# Altium schematic symbol library SiLabs Microcontroller 8-Bit 8051.SchLib: 120 symbols (part 7 of 9)
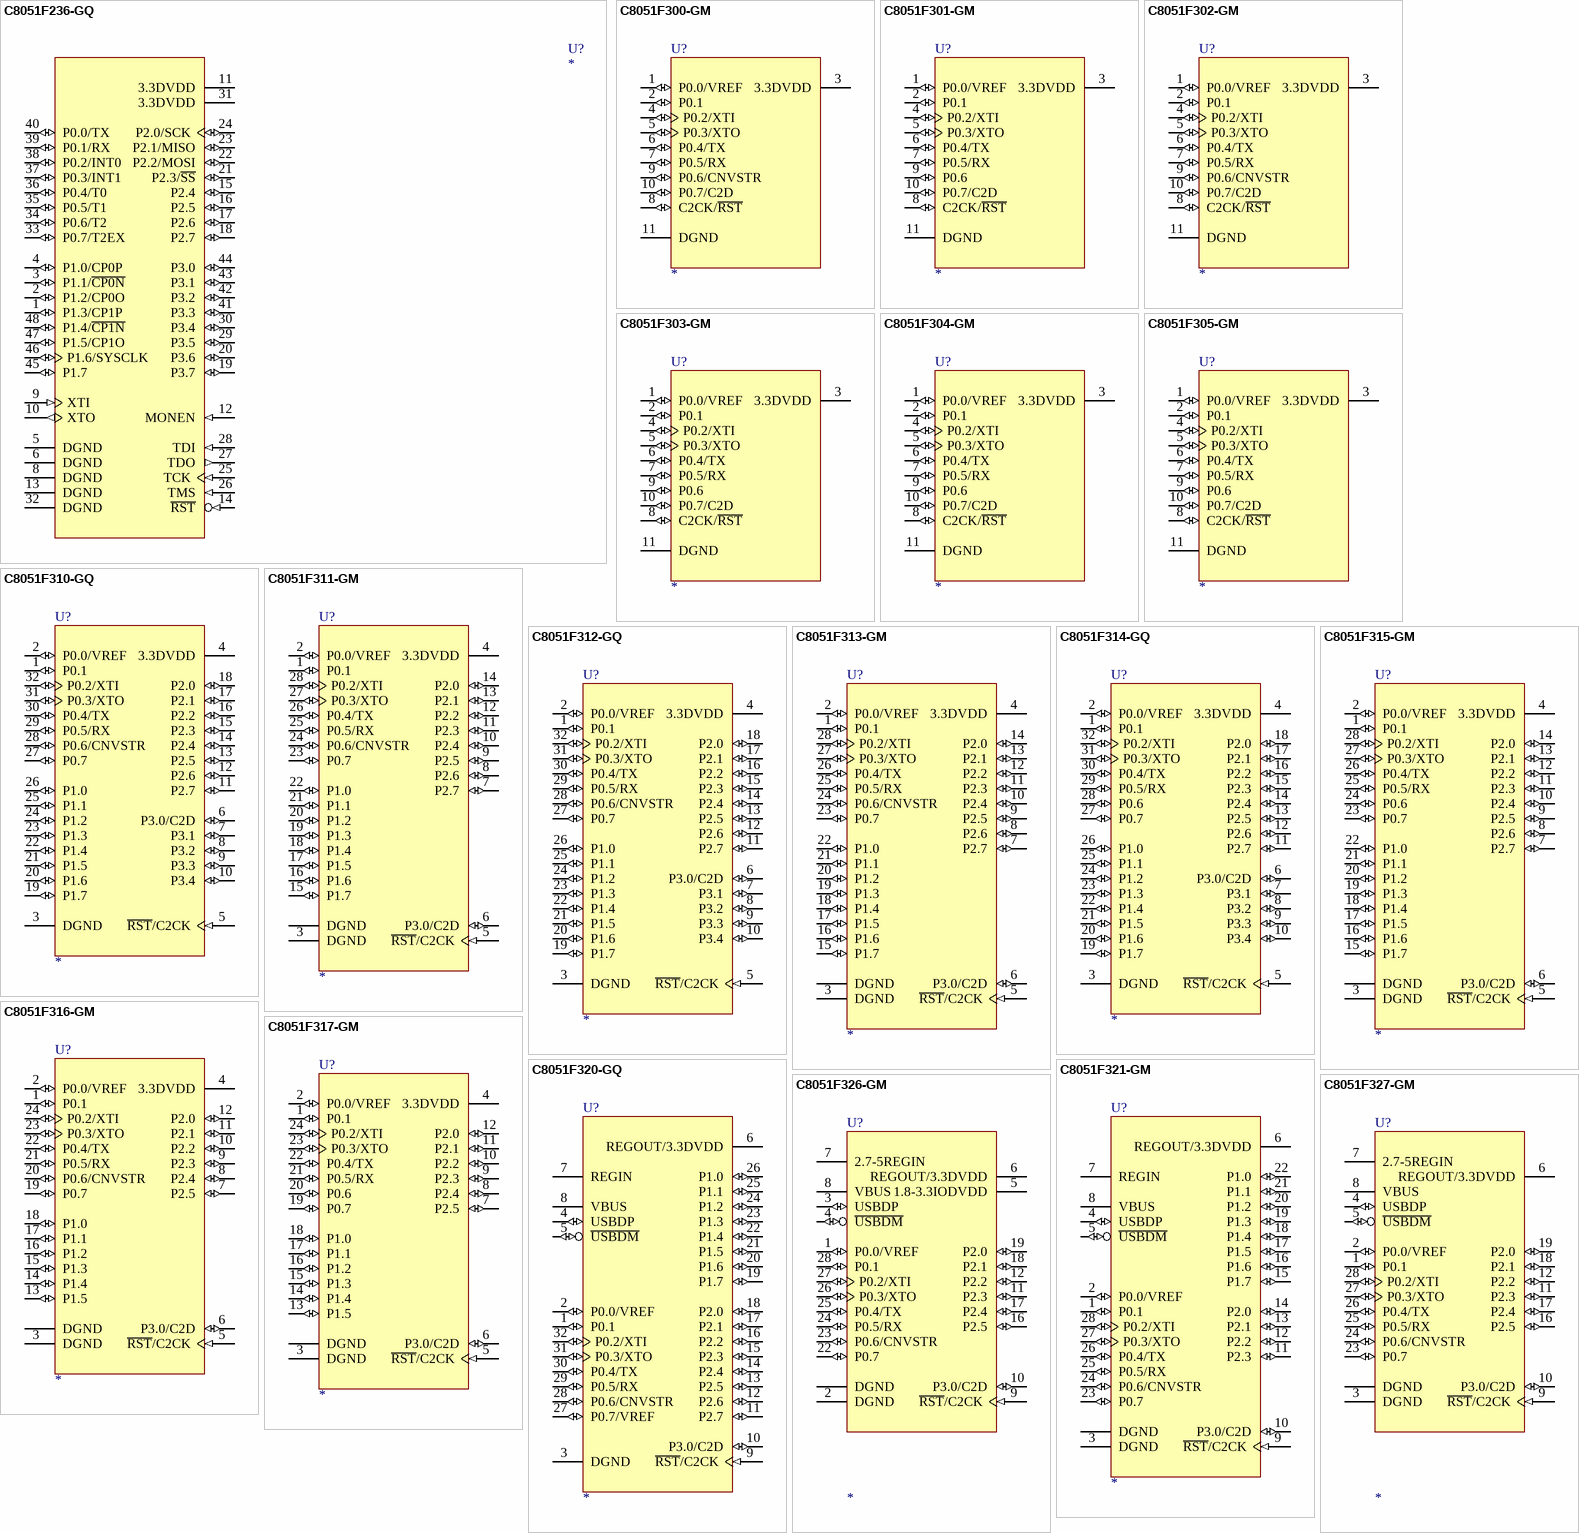
[diagram p20: symbols C8051F236-GQ to C8051F327-GM]

## C8051F312-GQ
designator U?
8051 Microcontroller, 25MIPS, 8KiB Flash, 256Byte RAM + 1KiB XRAM, 24.5MHz +/-2% Internal Oscillator, 4-16bit Timer, 21CH 200ksps 10bit ADC, UART, I2C, SPI, PCA, 2 Comparator, 29GPIO.; Manufacture: Silicon Laboratories; Compliant: RoHS; CompliantInformationSource: Silicon Laboratries; PackageDocument: 2006-08; TempertureRange: Industrial (-40 to +85Cel); ComponentLink1Description: Manufacture Link; ComponentLink1URL: http://www.silabs.com/; ComponentLink2Description: Datasheet; ComponentLink2URL: https://www.silabs.com/Support Documents/TechnicalDocs/C8051F31x.pdf; DatasheetDocument: Rev. 1.7, 2006-08; PackageReference: LQFP-32; Published: 2008-09-16; Publisher: A and A System Co., Ltd.; DigiKeyPartNumber: 336-1255-ND
footprint LQFP-32/e0.8 (LQFP-32; Body Width 10mm; Pitch 0.8mm)
pins: 1 P0.1 (io) "Port 0.1.", 2 P0.0/VREF (io) "Port 0.0/External Voltage Reference", 3 DGND (power) "Digital Power Ground", 4 3.3DVDD (power) "3.3V Digital Power Supply.", 5 ~{RST}/C2CK (in) "Reset Input/C2 Debug IF Clock Input.", 6 P3.0/C2D (io) "Port 0.3/C2 Debug IF Data IO.", 7 P3.1 (io) "Port 3.1.", 8 P3.2 (io) "Port 3.2.", 9 P3.3 (io) "Port 3.3.", 10 P3.4 (io) "Port 3.4.", 11 P2.7 (io) "Port 2.7.", 12 P2.6 (io) "Port 2.6.", 13 P2.5 (io) "Port 2.5.", 14 P2.4 (io) "Port 2.4.", 15 P2.3 (io) "Port 2.3.", 16 P2.2 (io) "Port 2.2.", 17 P2.1 (io) "Port 2.1.", 18 P2.0 (io) "Port 2.0.", 19 P1.7 (io) "Port 1.7.", 20 P1.6 (io) "Port 1.6.", 21 P1.5 (io) "Port 1.5.", 22 P1.4 (io) "Port 1.4.", 23 P1.3 (io) "Port 1.3.", 24 P1.2 (io) "Port 1.2.", 25 P1.1 (io) "Port 1.1", 26 P1.0 (io) "Port 1.0", 27 P0.7 (io) "Port 0.7.", 28 P0.6/CNVSTR (io) "Port 0.6/ADC0 External Converter Start Input.", 29 P0.5/RX (io) "Port 0.5.", 30 P0.4/TX (io) "Port 0.4.", 31 P0.3/XTO (io) "Port 0.3/External Clock Output.", 32 P0.2/XTI (io) "Port 0.2/External Clock Input."

## C8051F313-GM
designator U?
8051 Microcontroller, 25MIPS, 8KiB Flash, 256Byte RAM + 1KiB XRAM, 24.5MHz +/-2% Internal Oscillator, 4-16bit Timer, 21CH 200ksps 10bit ADC, UART, I2C, SPI, PCA, 2 Comparator, 25GPIO.; Manufacture: Silicon Laboratories; Compliant: RoHS; CompliantInformationSource: Silicon Laboratries; PackageDocument: 2006-08; TempertureRange: Industrial (-40 to +85Cel); ComponentLink1Description: Manufacture Link; ComponentLink1URL: http://www.silabs.com/; ComponentLink2Description: Datasheet; ComponentLink2URL: https://www.silabs.com/Support Documents/TechnicalDocs/C8051F31x.pdf; DatasheetDocument: Rev. 1.7, 2006-08; PackageReference: QFN-28; Published: 2008-09-16; Publisher: A and A System Co., Ltd.; DigiKeyPartNumber: 336-1256-ND
footprint SILABS/QFN-28/W5/E0.5 (SiLabs Specific; QFN-28; Body 5.00x5.00x0.90mm; Pitch 0.5mm)
pins: 1 P0.1 (io) "Port 0.1.", 2 P0.0/VREF (io) "Port 0.0/External Voltage Reference", 3 DGND (power) "Digital Power Ground", 4 3.3DVDD (power) "3.3V Digital Power Supply.", 5 ~{RST}/C2CK (in) "Reset Input/C2 Debug IF Clock Input.", 6 P3.0/C2D (io) "Port 0.3/C2 Debug IF Data IO.", 7 P2.7 (io) "Port 2.7.", 8 P2.6 (io) "Port 2.6.", 9 P2.5 (io) "Port 2.5.", 10 P2.4 (io) "Port 2.4.", 11 P2.3 (io) "Port 2.3.", 12 P2.2 (io) "Port 2.2.", 13 P2.1 (io) "Port 2.1.", 14 P2.0 (io) "Port 2.0.", 15 P1.7 (io) "Port 1.7.", 16 P1.6 (io) "Port 1.6.", 17 P1.5 (io) "Port 1.5.", 18 P1.4 (io) "Port 1.4.", 19 P1.3 (io) "Port 1.3.", 20 P1.2 (io) "Port 1.2.", 21 P1.1 (io) "Port 1.1", 22 P1.0 (io) "Port 1.0", 23 P0.7 (io) "Port 0.7.", 24 P0.6/CNVSTR (io) "Port 0.6/ADC0 External Converter Start Input.", 25 P0.5/RX (io) "Port 0.5.", 26 P0.4/TX (io) "Port 0.4.", 27 P0.3/XTO (io) "Port 0.3/External Clock Output.", 28 P0.2/XTI (io) "Port 0.2/External Clock Input.", TPAD DGND (power)

## C8051F314-GQ
designator U?
8051 Microcontroller, 25MIPS, 8KiB Flash, 256Byte RAM + 1KiB XRAM, 24.5MHz +/-2% Internal Oscillator, 4-16bit Timer, UART, I2C, SPI, PCA, 2 Comparator, 29GPIO.; Manufacture: Silicon Laboratories; Compliant: RoHS; CompliantInformationSource: Silicon Laboratries; PackageDocument: 2006-08; TempertureRange: Industrial (-40 to +85Cel); ComponentLink1Description: Manufacture Link; ComponentLink1URL: http://www.silabs.com/; ComponentLink2Description: Datasheet; ComponentLink2URL: https://www.silabs.com/Support Documents/TechnicalDocs/C8051F31x.pdf; DatasheetDocument: Rev. 1.7, 2006-08; PackageReference: LQFP-32; Published: 2008-09-16; Publisher: A and A System Co., Ltd.; DigiKeyPartNumber: 336-1257-ND
footprint LQFP-32/e0.8 (LQFP-32; Body Width 10mm; Pitch 0.8mm)
pins: 1 P0.1 (io) "Port 0.1.", 2 P0.0/VREF (io) "Port 0.0/External Voltage Reference", 3 DGND (power) "Digital Power Ground", 4 3.3DVDD (power) "3.3V Digital Power Supply.", 5 ~{RST}/C2CK (in) "Reset Input/C2 Debug IF Clock Input.", 6 P3.0/C2D (io) "Port 0.3/C2 Debug IF Data IO.", 7 P3.1 (io) "Port 3.1.", 8 P3.2 (io) "Port 3.2.", 9 P3.3 (io) "Port 3.3.", 10 P3.4 (io) "Port 3.4.", 11 P2.7 (io) "Port 2.7.", 12 P2.6 (io) "Port 2.6.", 13 P2.5 (io) "Port 2.5.", 14 P2.4 (io) "Port 2.4.", 15 P2.3 (io) "Port 2.3.", 16 P2.2 (io) "Port 2.2.", 17 P2.1 (io) "Port 2.1.", 18 P2.0 (io) "Port 2.0.", 19 P1.7 (io) "Port 1.7.", 20 P1.6 (io) "Port 1.6.", 21 P1.5 (io) "Port 1.5.", 22 P1.4 (io) "Port 1.4.", 23 P1.3 (io) "Port 1.3.", 24 P1.2 (io) "Port 1.2.", 25 P1.1 (io) "Port 1.1", 26 P1.0 (io) "Port 1.0", 27 P0.7 (io) "Port 0.7.", 28 P0.6 (io) "Port 0.6/ADC0 External Converter Start Input.", 29 P0.5/RX (io) "Port 0.5.", 30 P0.4/TX (io) "Port 0.4.", 31 P0.3/XTO (io) "Port 0.3/External Clock Output.", 32 P0.2/XTI (io) "Port 0.2/External Clock Input."

## C8051F315-GM
designator U?
8051 Microcontroller, 25MIPS, 8KiB Flash, 256Byte RAM + 1KiB XRAM, 24.5MHz +/-2% Internal Oscillator, 4-16bit Timer, UART, I2C, SPI, PCA, 2 Comparator, 25GPIO.; Manufacture: Silicon Laboratories; Compliant: RoHS; CompliantInformationSource: Silicon Laboratries; PackageDocument: 2006-08; TempertureRange: Industrial (-40 to +85Cel); ComponentLink1Description: Manufacture Link; ComponentLink1URL: http://www.silabs.com/; ComponentLink2Description: Datasheet; ComponentLink2URL: https://www.silabs.com/Support Documents/TechnicalDocs/C8051F31x.pdf; DatasheetDocument: Rev. 1.7, 2006-08; PackageReference: QFN-28; Published: 2008-09-16; Publisher: A and A System Co., Ltd.; DigiKeyPartNumber: 336-1258-ND
footprint SILABS/QFN-28/W5/E0.5 (SiLabs Specific; QFN-28; Body 5.00x5.00x0.90mm; Pitch 0.5mm)
pins: 1 P0.1 (io) "Port 0.1.", 2 P0.0/VREF (io) "Port 0.0/External Voltage Reference", 3 DGND (power) "Digital Power Ground", 4 3.3DVDD (power) "3.3V Digital Power Supply.", 5 ~{RST}/C2CK (in) "Reset Input/C2 Debug IF Clock Input.", 6 P3.0/C2D (io) "Port 0.3/C2 Debug IF Data IO.", 7 P2.7 (io) "Port 2.7.", 8 P2.6 (io) "Port 2.6.", 9 P2.5 (io) "Port 2.5.", 10 P2.4 (io) "Port 2.4.", 11 P2.3 (io) "Port 2.3.", 12 P2.2 (io) "Port 2.2.", 13 P2.1 (io) "Port 2.1.", 14 P2.0 (io) "Port 2.0.", 15 P1.7 (io) "Port 1.7.", 16 P1.6 (io) "Port 1.6.", 17 P1.5 (io) "Port 1.5.", 18 P1.4 (io) "Port 1.4.", 19 P1.3 (io) "Port 1.3.", 20 P1.2 (io) "Port 1.2.", 21 P1.1 (io) "Port 1.1", 22 P1.0 (io) "Port 1.0", 23 P0.7 (io) "Port 0.7.", 24 P0.6 (io) "Port 0.6/ADC0 External Converter Start Input.", 25 P0.5/RX (io) "Port 0.5.", 26 P0.4/TX (io) "Port 0.4.", 27 P0.3/XTO (io) "Port 0.3/External Clock Output.", 28 P0.2/XTI (io) "Port 0.2/External Clock Input.", TPAD DGND (power)

## C8051F316-GM
designator U?
8051 Microcontroller, 25MIPS, 16KiB Flash, 256Byte RAM + 1KiB XRAM, 24.5MHz +/-2% Internal Oscillator, 4-16bit Timer, 21CH 200ksps 10bit ADC, UART, I2C, SPI, PCA, 2 Comparator, 21GPIO.; Manufacture: Silicon Laboratories; Compliant: RoHS; CompliantInformationSource: Silicon Laboratries; PackageDocument: 2006-08; TempertureRange: Industrial (-40 to +85Cel); ComponentLink1Description: Manufacture Link; ComponentLink1URL: http://www.silabs.com/; ComponentLink2Description: Datasheet; ComponentLink2URL: https://www.silabs.com/Support Documents/TechnicalDocs/C8051F31x.pdf; DatasheetDocument: Rev. 1.7, 2006-08; PackageReference: QFN-24; Published: 2008-09-16; Publisher: A and A System Co., Ltd.; DigiKeyPartNumber: 336-1281-5-ND
footprint HV-PQFN-24/W4/e0.5 (QFN-24; JEDEC MO-220-VGGD-6; Body 4.00x4.00x1.00mm; Pitch 0.5mm;)
pins: 1 P0.1 (io) "Port 0.1.", 2 P0.0/VREF (io) "Port 0.0/External Voltage Reference", 3 DGND (power) "Digital Power Ground", 4 3.3DVDD (power) "3.3V Digital Power Supply.", 5 ~{RST}/C2CK (in) "Reset Input/C2 Debug IF Clock Input.", 6 P3.0/C2D (io) "Port 0.3/C2 Debug IF Data IO.", 7 P2.5 (io) "Port 2.5.", 8 P2.4 (io) "Port 2.4.", 9 P2.3 (io) "Port 2.3.", 10 P2.2 (io) "Port 2.2.", 11 P2.1 (io) "Port 2.1.", 12 P2.0 (io) "Port 2.0.", 13 P1.5 (io) "Port 1.5.", 14 P1.4 (io) "Port 1.4.", 15 P1.3 (io) "Port 1.3.", 16 P1.2 (io) "Port 1.2.", 17 P1.1 (io) "Port 1.1", 18 P1.0 (io) "Port 1.0", 19 P0.7 (io) "Port 0.7.", 20 P0.6/CNVSTR (io) "Port 0.6/ADC0 External Converter Start Input.", 21 P0.5/RX (io) "Port 0.5.", 22 P0.4/TX (io) "Port 0.4.", 23 P0.3/XTO (io) "Port 0.3/External Clock Output.", 24 P0.2/XTI (io) "Port 0.2/External Clock Input.", TPAD DGND (power)

## C8051F317-GM
designator U?
8051 Microcontroller, 25MIPS, 16KiB Flash, 256Byte RAM + 1KiB XRAM, 24.5MHz +/-2% Internal Oscillator, 4-16bit Timer, UART, I2C, SPI, PCA, 2 Comparator, 21GPIO.; Manufacture: Silicon Laboratories; Compliant: RoHS; CompliantInformationSource: Silicon Laboratries; PackageDocument: 2006-08; TempertureRange: Industrial (-40 to +85Cel); ComponentLink1Description: Manufacture Link; ComponentLink1URL: http://www.silabs.com/; ComponentLink2Description: Datasheet; ComponentLink2URL: https://www.silabs.com/Support Documents/TechnicalDocs/C8051F31x.pdf; DatasheetDocument: Rev. 1.7, 2006-08; PackageReference: QFN-24; Published: 2008-09-16; Publisher: A and A System Co., Ltd.; DigiKeyPartNumber: 336-1282-5-ND
footprint HV-PQFN-24/W4/e0.5 (QFN-24; JEDEC MO-220-VGGD-6; Body 4.00x4.00x1.00mm; Pitch 0.5mm;)
pins: 1 P0.1 (io) "Port 0.1.", 2 P0.0/VREF (io) "Port 0.0/External Voltage Reference", 3 DGND (power) "Digital Power Ground", 4 3.3DVDD (power) "3.3V Digital Power Supply.", 5 ~{RST}/C2CK (in) "Reset Input/C2 Debug IF Clock Input.", 6 P3.0/C2D (io) "Port 0.3/C2 Debug IF Data IO.", 7 P2.5 (io) "Port 2.5.", 8 P2.4 (io) "Port 2.4.", 9 P2.3 (io) "Port 2.3.", 10 P2.2 (io) "Port 2.2.", 11 P2.1 (io) "Port 2.1.", 12 P2.0 (io) "Port 2.0.", 13 P1.5 (io) "Port 1.5.", 14 P1.4 (io) "Port 1.4.", 15 P1.3 (io) "Port 1.3.", 16 P1.2 (io) "Port 1.2.", 17 P1.1 (io) "Port 1.1", 18 P1.0 (io) "Port 1.0", 19 P0.7 (io) "Port 0.7.", 20 P0.6 (io) "Port 0.6/ADC0 External Converter Start Input.", 21 P0.5/RX (io) "Port 0.5.", 22 P0.4/TX (io) "Port 0.4.", 23 P0.3/XTO (io) "Port 0.3/External Clock Output.", 24 P0.2/XTI (io) "Port 0.2/External Clock Input.", TPAD DGND (power)

## C8051F320-GQ
designator U?
USB 8051 Microcontroller, 25MIPS, 16KiB Flash, 256Byte RAM + 1KiB XRAM, 1KiB USB FIFO, 12MHz +/-0.25% Internal Oscillator, 4-16bit Timer, 17CH 200ksps 10bit ADC, USB 2.0 FS/LS, UART, I2C, SPI, PCA, 2 Comparator, LDO, 25GPIO.; Manufacture: Silicon Laboratories; Compliant: RoHS; CompliantInformationSource: Silicon Laboratries; PackageDocument: 2007-06; TempertureRange: Industrial (-40 to +85Cel); ComponentLink1Description: Manufacture Link; ComponentLink1URL: http://www.silabs.com/; ComponentLink2Description: Datasheet; ComponentLink2URL: https://www.silabs.com/Support Documents/TechnicalDocs/C8051F32x.pdf; DatasheetDocument: Rev. 1.2, 2007-06; PackageReference: LQFP-32; Published: 2006-02-21; Publisher: A and A System Co., Ltd.; DigiKeyPartNumber: 336-1259-ND
footprint LQFP-32/e0.8 (LQFP-32; Body Width 10mm; Pitch 0.8mm)
pins: 1 P0.1 (io) "Port 0.1.", 2 P0.0/VREF (io) "Port 0.0, External Voltage Reference.", 3 DGND (power) "Digital Power Ground", 4 USBDP (io) "USB Data line Positive.", 5 ~{USBDM} (io) "USB Data line Negative", 6 REGOUT/3.3DVDD (power) "2.7-3.6V Power Supply Voltage Input, or 3.3V Voltage Regulator Output. See Section 8.", 7 REGIN (power) "5V Regulator Input. This pin is the input to the on-chip voltage regulator.", 8 VBUS (power) "VBUS Sense Input. This pin should be connected to the VBUS signal of a USB network. A 5?V signal on this pin indicates a USB network connection.", 9 ~{RST}/C2CK (in) "Reset Input, C2 Debug IF Clock Input.", 10 P3.0/C2D (io) "Port 0.3, C2 Debug IF Data IO.", 11 P2.7 (io) "Port 2.7.", 12 P2.6 (io) "Port 2.6.", 13 P2.5 (io) "Port 2.5.", 14 P2.4 (io) "Port 2.4.", 15 P2.3 (io) "Port 2.3.", 16 P2.2 (io) "Port 2.2.", 17 P2.1 (io) "Port 2.1.", 18 P2.0 (io) "Port 2.0.", 19 P1.7 (io) "Port 1.7.", 20 P1.6 (io) "Port 1.6.", 21 P1.5 (io) "Port 1.5.", 22 P1.4 (io) "Port 1.4.", 23 P1.3 (io) "Port 1.3.", 24 P1.2 (io) "Port 1.2.", 25 P1.1 (io) "Port 1.1", 26 P1.0 (io) "Port 1.0", 27 P0.7/VREF (io) "Port 0.7.", 28 P0.6/CNVSTR (io) "Port 0.6, ADC0 External Converter Start Input.", 29 P0.5/RX (io) "Port 0.5.", 30 P0.4/TX (io) "Port 0.4.", 31 P0.3/XTO (io) "Port 0.3, External Clock Output.", 32 P0.2/XTI (io) "Port 0.2, External Clock Input."

## C8051F321-GM
designator U?
USB 8051 Microcontroller, 25MIPS, 16KiB Flash, 256Byte RAM + 1KiB XRAM, 1KiB USB FIFO, 12MHz +/-0.25% Internal Oscillator, 4-16bit Timer, 12CH 200ksps 10bit ADC, USB 2.0 FS/LS, UART, I2C, SPI, PCA, 2 Comparator, LDO, 21GPIO.; Manufacture: Silicon Laboratories; Compliant: RoHS; CompliantInformationSource: Silicon Laboratries; PackageDocument: 2007-06; TempertureRange: Industrial (-40 to +85Cel); ComponentLink1Description: Manufacture Link; ComponentLink1URL: http://www.silabs.com/; ComponentLink2Description: Datasheet; ComponentLink2URL: https://www.silabs.com/Support Documents/TechnicalDocs/C8051F32x.pdf; DatasheetDocument: Rev. 1.2, 2007-06; PackageReference: QFN-28; Published: 2006-02-21; Publisher: A and A System Co., Ltd.; DigiKeyPartNumber: 336-1261-ND
footprint SILABS/QFN-28/W5/E0.5 (SiLabs Specific; QFN-28; Body 5.00x5.00x0.90mm; Pitch 0.5mm)
pins: 1 P0.1 (io) "Port 0.1.", 2 P0.0/VREF (io) "Port 0.0, External Voltage Reference", 3 DGND (power) "Digital Power Ground", 4 USBDP (io) "USB Data line Positive", 5 ~{USBDM} (io) "USB Data line Negative", 6 REGOUT/3.3DVDD (power) "2.7-3.6V Power Supply Voltage Input, or 3.3V Voltage Regulator Output. See Section 8.", 7 REGIN (power) "5V Regulator Input. This pin is the input to the on-chip voltage regulator.", 8 VBUS (power) "VBUS Sense Input. This pin should be connected to the VBUS signal of a USB network. A 5?V signal on this pin indicates a USB network connection.", 9 ~{RST}/C2CK (in) "Reset Input/C2 Debug IF Clock Input.", 10 P3.0/C2D (io) "Port 0.3/C2 Debug IF Data IO.", 11 P2.3 (io) "Port 2.3.", 12 P2.2 (io) "Port 2.2.", 13 P2.1 (io) "Port 2.1.", 14 P2.0 (io) "Port 2.0.", 15 P1.7 (io) "Port 1.7.", 16 P1.6 (io) "Port 1.6.", 17 P1.5 (io) "Port 1.5.", 18 P1.4 (io) "Port 1.4.", 19 P1.3 (io) "Port 1.3.", 20 P1.2 (io) "Port 1.2.", 21 P1.1 (io) "Port 1.1", 22 P1.0 (io) "Port 1.0", 23 P0.7 (io) "Port 0.7.", 24 P0.6/CNVSTR (io) "Port 0.6/ADC0 External Converter Start Input.", 25 P0.5/RX (io) "Port 0.5.", 26 P0.4/TX (io) "Port 0.4.", 27 P0.3/XTO (io) "Port 0.3/External Clock Output.", 28 P0.2/XTI (io) "Port 0.2/External Clock Input.", TPAD DGND (power)

## C8051F326-GM
designator U?
USB 8051 Microcontroller, 25MIPS, 16KiB Flash, 256Byte RAM + 256Byte XRAM, 256Byte USB FIFO, 12MHz +/-0.25% Internal Oscillator, 2-16bit Timer, USB 2.0 FS/LS, UART, LDO, Separable IO Supply, 15GPIO.; Manufacture: Silicon Laboratories; Compliant: RoHS; CompliantInformationSource: Silicon Laboratries; PackageDocument: 2008-08; TempertureRange: Industrial (-40 to +85Cel); ComponentLink1Description: Manufacture Link; ComponentLink1URL: http://www.silabs.com/; ComponentLink2Description: Datasheet; ComponentLink2URL: https://www.silabs.com/Support Documents/TechnicalDocs/C8051F326.pdf; DatasheetDocument: Rev. 1.1, 2008-08; PackageReference: QFN-28; Published: 2008-09-16; Publisher: A and A System Co., Ltd.; DigiKeyPartNumber: 336-1296-5-ND
footprint SILABS/QFN-28/W5/E0.5 (SiLabs Specific; QFN-28; Body 5.00x5.00x0.90mm; Pitch 0.5mm)
pins: 1 P0.0/VREF (io) "Port 0.0, External Voltage Reference", 2 DGND (power) "Digital Power Ground", 3 USBDP (io) "USB Data line Positive", 4 ~{USBDM} (io) "USB Data line Negative", 5 1.8-3.3IODVDD (power), 6 REGOUT/3.3DVDD (power) "2.7-3.6V Power Supply Voltage Input, or 3.3V Voltage Regulator Output. See Section 8.", 7 2.7-5REGIN (power) "5V Regulator Input. This pin is the input to the on-chip voltage regulator.", 8 VBUS (power) "VBUS Sense Input. This pin should be connected to the VBUS signal of a USB network. A 5?V signal on this pin indicates a USB network connection.", 9 ~{RST}/C2CK (in) "Reset Input/C2 Debug IF Clock Input.", 10 P3.0/C2D (io) "Port 0.3/C2 Debug IF Data IO.", 11 P2.3 (io) "Port 2.3.", 12 P2.2 (io) "Port 2.2.", 16 P2.5 (io) "Port 2.2.", 17 P2.4 (io) "Port 2.2.", 18 P2.1 (io) "Port 2.2.", 19 P2.0 (io) "Port 2.2.", 22 P0.7 (io) "Port 0.7.", 23 P0.6/CNVSTR (io) "Port 0.6/ADC0 External Converter Start Input.", 24 P0.5/RX (io) "Port 0.5.", 25 P0.4/TX (io) "Port 0.4.", 26 P0.3/XTO (io) "Port 0.3/External Clock Output.", 27 P0.2/XTI (io) "Port 0.2/External Clock Input.", 28 P0.1 (io) "Port 0.1.", TPAD DGND (power)

## C8051F327-GM
designator U?
USB 8051 Microcontroller, 25MIPS, 16KiB Flash, 256Byte RAM + 256Byte XRAM, 256Byte USB FIFO, 12MHz +/-0.25% Internal Oscillator, 2-16bit Timer, USB 2.0 FS/LS, UART, LDO, 15GPIO.; Manufacture: Silicon Laboratories; Compliant: RoHS; CompliantInformationSource: Silicon Laboratries; PackageDocument: 2008-08; TempertureRange: Industrial (-40 to +85Cel); ComponentLink1Description: Manufacture Link; ComponentLink1URL: http://www.silabs.com/; ComponentLink2Description: Datasheet; ComponentLink2URL: https://www.silabs.com/Support Documents/TechnicalDocs/C8051F326.pdf; DatasheetDocument: Rev. 1.1, 2008-08; PackageReference: QFN-28; Published: 2008-09-16; Publisher: A and A System Co., Ltd.; DigiKeyPartNumber: 336-1297-5-ND
footprint SILABS/QFN-28/W5/E0.5 (SiLabs Specific; QFN-28; Body 5.00x5.00x0.90mm; Pitch 0.5mm)
pins: 1 P0.1 (io) "Port 0.1.", 2 P0.0/VREF (io) "Port 0.0, External Voltage Reference", 3 DGND (power) "Digital Power Ground", 4 USBDP (io) "USB Data line Positive", 5 ~{USBDM} (io) "USB Data line Negative", 6 REGOUT/3.3DVDD (power) "2.7-3.6V Power Supply Voltage Input, or 3.3V Voltage Regulator Output. See Section 8.", 7 2.7-5REGIN (power) "5V Regulator Input. This pin is the input to the on-chip voltage regulator.", 8 VBUS (power) "VBUS Sense Input. This pin should be connected to the VBUS signal of a USB network. A 5?V signal on this pin indicates a USB network connection.", 9 ~{RST}/C2CK (in) "Reset Input/C2 Debug IF Clock Input.", 10 P3.0/C2D (io) "Port 0.3/C2 Debug IF Data IO.", 11 P2.3 (io) "Port 2.3.", 12 P2.2 (io) "Port 2.2.", 16 P2.5 (io) "Port 2.2.", 17 P2.4 (io) "Port 2.2.", 18 P2.1 (io) "Port 2.2.", 19 P2.0 (io) "Port 2.2.", 23 P0.7 (io) "Port 0.7.", 24 P0.6/CNVSTR (io) "Port 0.6/ADC0 External Converter Start Input.", 25 P0.5/RX (io) "Port 0.5.", 26 P0.4/TX (io) "Port 0.4.", 27 P0.3/XTO (io) "Port 0.3/External Clock Output.", 28 P0.2/XTI (io) "Port 0.2/External Clock Input.", TPAD DGND (power)

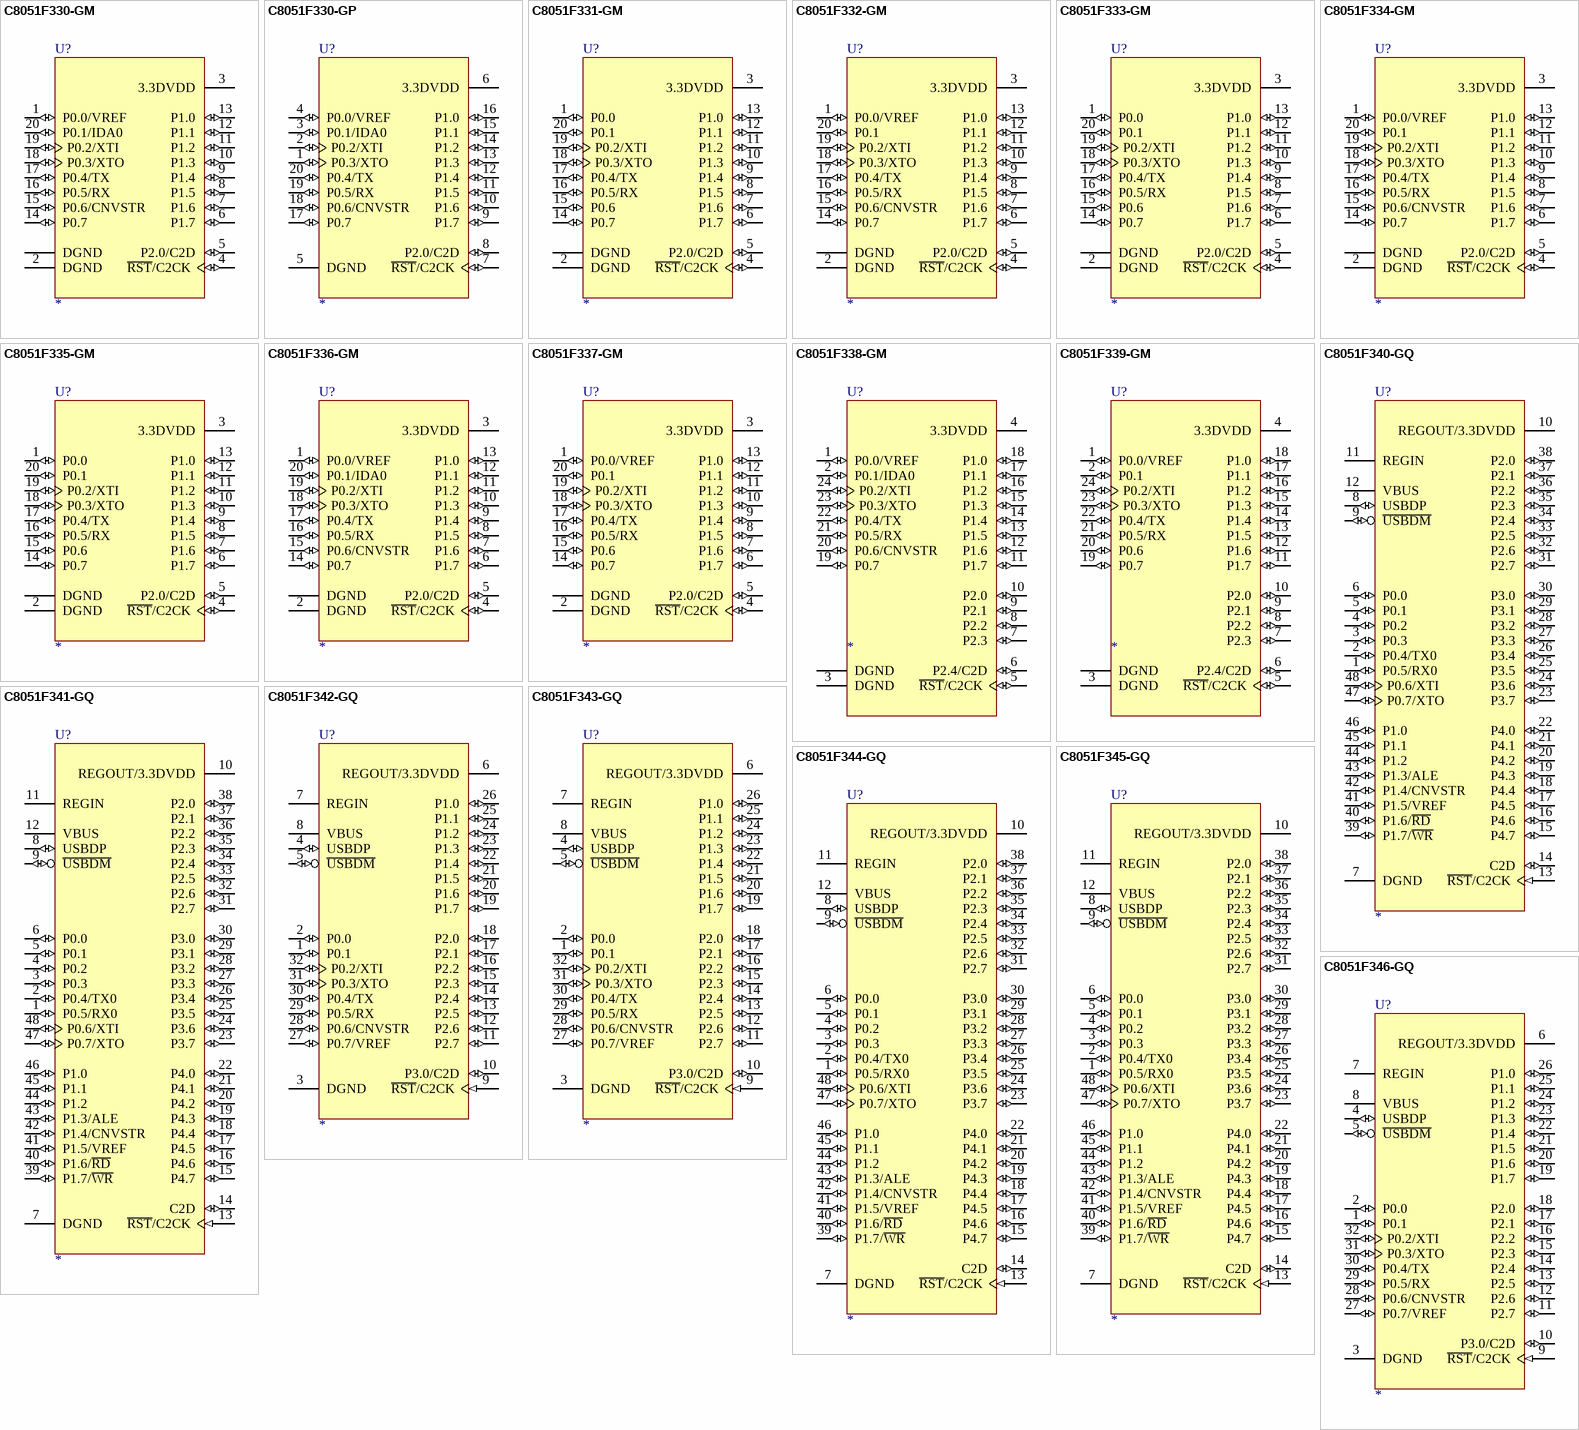
[diagram p12: symbols C8051F330-GM to C8051F346-GQ]

## C8051F330-GM
designator U?
8051 Microcontroller, 25MIPS, 8KiB Flash, 256Byte RAM + 512Byte XRAM, 24.5MHz +/-2% and 80-10kHz Internal Oscillator, 4-16bit Timer, 16CH 200ksps 10bit ADC, 1CH 10bit IDAC, UART, I2C, SPI, PCA, Comparator, 17GPIO.; Manufacture: Silicon Laboratories; Compliant: RoHS; CompliantInformationSource: Silicon Laboratries; PackageDocument: 2006-01; TempertureRange: Industrial (-40 to +85Cel); ComponentLink1Description: Manufacture Link; ComponentLink1URL: http://www.silabs.com/; ComponentLink2Description: Datasheet; ComponentLink2URL: https://www.silabs.com/Support Documents/TechnicalDocs/C8051F33x.pdf; DatasheetDocument: Rev. 1.5, 2006-01; PackageReference: QFN-20; Published: 2006-02-17; Publisher: A and A System Co., Ltd.; DigiKeyPartNumber: 336-1262-ND
footprint SILABS/QFN-20/W4/E0.5 (SiLabs Specific; QFN-20; Body  4.00x4.00x0.75mm; Pitch 0.5mm)
pins: 1 P0.0/VREF (io), 2 DGND (power), 3 3.3DVDD (power), 4 ~{RST}/C2CK (io), 5 P2.0/C2D (io), 6 P1.7 (io), 7 P1.6 (io), 8 P1.5 (io), 9 P1.4 (io), 10 P1.3 (io), 11 P1.2 (io), 12 P1.1 (io), 13 P1.0 (io), 14 P0.7 (io), 15 P0.6/CNVSTR (io), 16 P0.5/RX (io), 17 P0.4/TX (io), 18 P0.3/XTO (io), 19 P0.2/XTI (io), 20 P0.1/IDA0 (io), TPAD DGND (power)

## C8051F330-GP
designator U?
8051 Microcontroller, 25MIPS, 8KiB Flash, 256Byte RAM + 512Byte XRAM, 24.5MHz +/-2% and 80-10kHz Internal Oscillator, 4-16bit Timer, 16CH 200ksps 10bit ADC, 1CH 10bit IDAC, UART, I2C, SPI, PCA, Comparator, 17GPIO.; Manufacture: Silicon Laboratories; Compliant: RoHS; CompliantInformationSource: Silicon Laboratries; PackageDocument: 2006-01; TempertureRange: Industrial (-40 to +85Cel); ComponentLink1Description: Manufacture Link; ComponentLink1URL: http://www.silabs.com/; ComponentLink2Description: Datasheet; ComponentLink2URL: https://www.silabs.com/Support Documents/TechnicalDocs/C8051F33x.pdf; DatasheetDocument: Rev. 1.5, 2006-01; PackageReference: DIP-20; Published: 2006-02-17; Publisher: A and A System Co., Ltd.; DigiKeyPartNumber: 336-1263-ND
footprint DIP20/W300/P (Dual Inline Package; 20Pin; Body Width 300mil/7.62mm; Pitch 100mil/2.54mm; JEDEC Code MO-01fAK.)
pins: 1 P0.3/XTO (io), 2 P0.2/XTI (io), 3 P0.1/IDA0 (io), 4 P0.0/VREF (io), 5 DGND (power), 6 3.3DVDD (power), 7 ~{RST}/C2CK (io), 8 P2.0/C2D (io), 9 P1.7 (io), 10 P1.6 (io), 11 P1.5 (io), 12 P1.4 (io), 13 P1.3 (io), 14 P1.2 (io), 15 P1.1 (io), 16 P1.0 (io), 17 P0.7 (io), 18 P0.6/CNVSTR (io), 19 P0.5/RX (io), 20 P0.4/TX (io)

## C8051F331-GM
designator U?
8051 Microcontroller, 25MIPS, 8KiB Flash, 256Byte RAM + 512Byte XRAM, 24.5MHz +/-2% and 80-10kHz Internal Oscillator, 4-16bit Timer, UART, I2C, SPI, PCA, Comparator, 17GPIO.; Manufacture: Silicon Laboratories; Compliant: RoHS; CompliantInformationSource: Silicon Laboratries; PackageDocument: 2006-01; TempertureRange: Industrial (-40 to +85Cel); ComponentLink1Description: Manufacture Link; ComponentLink1URL: http://www.silabs.com/; ComponentLink2Description: Datasheet; ComponentLink2URL: https://www.silabs.com/Support Documents/TechnicalDocs/C8051F33x.pdf; DatasheetDocument: Rev. 1.5, 2006-01; PackageReference: QFN-20; Published: 2006-02-17; Publisher: A and A System Co., Ltd.; DigiKeyPartNumber: 336-1265-ND
footprint SILABS/QFN-20/W4/E0.5 (SiLabs Specific; QFN-20; Body  4.00x4.00x0.75mm; Pitch 0.5mm)
pins: 1 P0.0 (io), 2 DGND (power), 3 3.3DVDD (power), 4 ~{RST}/C2CK (io), 5 P2.0/C2D (io), 6 P1.7 (io), 7 P1.6 (io), 8 P1.5 (io), 9 P1.4 (io), 10 P1.3 (io), 11 P1.2 (io), 12 P1.1 (io), 13 P1.0 (io), 14 P0.7 (io), 15 P0.6 (io), 16 P0.5/RX (io), 17 P0.4/TX (io), 18 P0.3/XTO (io), 19 P0.2/XTI (io), 20 P0.1 (io), TPAD DGND (power)

## C8051F332-GM
designator U?
8051 Microcontroller, 25MIPS, 4KiB Flash, 256Byte RAM + 512Byte XRAM, 24.5MHz +/-2% and 80-10kHz Internal Oscillator, 4-16bit Timer, 16CH 200ksps 10bit ADC, UART, I2C, SPI, PCA, Comparator, 17GPIO.; Manufacture: Silicon Laboratories; Compliant: RoHS; CompliantInformationSource: Silicon Laboratries; PackageDocument: 2006-01; TempertureRange: Industrial (-40 to +85Cel); ComponentLink1Description: Manufacture Link; ComponentLink1URL: http://www.silabs.com/; ComponentLink2Description: Datasheet; ComponentLink2URL: https://www.silabs.com/Support Documents/TechnicalDocs/C8051F33x.pdf; DatasheetDocument: Rev. 1.5, 2006-01; PackageReference: QFN-20; Published: 2006-02-17; Publisher: A and A System Co., Ltd.; DigiKeyPartNumber: 336-1266-ND
footprint SILABS/QFN-20/W4/E0.5 (SiLabs Specific; QFN-20; Body  4.00x4.00x0.75mm; Pitch 0.5mm)
pins: 1 P0.0/VREF (io), 2 DGND (power), 3 3.3DVDD (power), 4 ~{RST}/C2CK (io), 5 P2.0/C2D (io), 6 P1.7 (io), 7 P1.6 (io), 8 P1.5 (io), 9 P1.4 (io), 10 P1.3 (io), 11 P1.2 (io), 12 P1.1 (io), 13 P1.0 (io), 14 P0.7 (io), 15 P0.6/CNVSTR (io), 16 P0.5/RX (io), 17 P0.4/TX (io), 18 P0.3/XTO (io), 19 P0.2/XTI (io), 20 P0.1 (io), TPAD DGND (power)

## C8051F333-GM
designator U?
8051 Microcontroller, 25MIPS, 4KiB Flash, 256Byte RAM + 512Byte XRAM, 24.5MHz +/-2% and 80-10kHz Internal Oscillator, 4-16bit Timer, UART, I2C, SPI, PCA, Comparator, 17GPIO.; Manufacture: Silicon Laboratories; Compliant: RoHS; CompliantInformationSource: Silicon Laboratries; PackageDocument: 2006-01; TempertureRange: Industrial (-40 to +85Cel); ComponentLink1Description: Manufacture Link; ComponentLink1URL: http://www.silabs.com/; ComponentLink2Description: Datasheet; ComponentLink2URL: https://www.silabs.com/Support Documents/TechnicalDocs/C8051F33x.pdf; DatasheetDocument: Rev. 1.5, 2006-01; PackageReference: QFN-20; Published: 2006-02-17; Publisher: A and A System Co., Ltd.; DigiKeyPartNumber: 336-1267-ND
footprint SILABS/QFN-20/W4/E0.5 (SiLabs Specific; QFN-20; Body  4.00x4.00x0.75mm; Pitch 0.5mm)
pins: 1 P0.0 (io), 2 DGND (power), 3 3.3DVDD (power), 4 ~{RST}/C2CK (io), 5 P2.0/C2D (io), 6 P1.7 (io), 7 P1.6 (io), 8 P1.5 (io), 9 P1.4 (io), 10 P1.3 (io), 11 P1.2 (io), 12 P1.1 (io), 13 P1.0 (io), 14 P0.7 (io), 15 P0.6 (io), 16 P0.5/RX (io), 17 P0.4/TX (io), 18 P0.3/XTO (io), 19 P0.2/XTI (io), 20 P0.1 (io), TPAD DGND (power)

## C8051F334-GM
designator U?
8051 Microcontroller, 25MIPS, 2KiB Flash, 256Byte RAM + 512Byte XRAM, 24.5MHz +/-2% and 80-10kHz Internal Oscillator, 4-16bit Timer, 16CH 200ksps 10bit ADC, UART, I2C, SPI, PCA, Comparator, 17GPIO.; Manufacture: Silicon Laboratories; Compliant: RoHS; CompliantInformationSource: Silicon Laboratries; PackageDocument: 2006-01; TempertureRange: Industrial (-40 to +85Cel); ComponentLink1Description: Manufacture Link; ComponentLink1URL: http://www.silabs.com/; ComponentLink2Description: Datasheet; ComponentLink2URL: https://www.silabs.com/Support Documents/TechnicalDocs/C8051F33x.pdf; DatasheetDocument: Rev. 1.5, 2006-01; PackageReference: QFN-20; Published: 2006-02-17; Publisher: A and A System Co., Ltd.; DigiKeyPartNumber: 336-1268-ND
footprint SILABS/QFN-20/W4/E0.5 (SiLabs Specific; QFN-20; Body  4.00x4.00x0.75mm; Pitch 0.5mm)
pins: 1 P0.0/VREF (io), 2 DGND (power), 3 3.3DVDD (power), 4 ~{RST}/C2CK (io), 5 P2.0/C2D (io), 6 P1.7 (io), 7 P1.6 (io), 8 P1.5 (io), 9 P1.4 (io), 10 P1.3 (io), 11 P1.2 (io), 12 P1.1 (io), 13 P1.0 (io), 14 P0.7 (io), 15 P0.6/CNVSTR (io), 16 P0.5/RX (io), 17 P0.4/TX (io), 18 P0.3/XTO (io), 19 P0.2/XTI (io), 20 P0.1 (io), TPAD DGND (power)

## C8051F335-GM
designator U?
8051 Microcontroller, 25MIPS, 2KiB Flash, 256Byte RAM + 512Byte XRAM, 24.5MHz +/-2% and 80-10kHz Internal Oscillator, 4-16bit Timer, UART, I2C, SPI, PCA, Comparator, 17GPIO.; Manufacture: Silicon Laboratories; Compliant: RoHS; CompliantInformationSource: Silicon Laboratries; PackageDocument: 2006-01; TempertureRange: Industrial (-40 to +85Cel); ComponentLink1Description: Manufacture Link; ComponentLink1URL: http://www.silabs.com/; ComponentLink2Description: Datasheet; ComponentLink2URL: https://www.silabs.com/Support Documents/TechnicalDocs/C8051F33x.pdf; DatasheetDocument: Rev. 1.5, 2006-01; PackageReference: QFN-20; Published: 2006-02-17; Publisher: A and A System Co., Ltd.; DigiKeyPartNumber: 336-1269-ND
footprint SILABS/QFN-20/W4/E0.5 (SiLabs Specific; QFN-20; Body  4.00x4.00x0.75mm; Pitch 0.5mm)
pins: 1 P0.0 (io), 2 DGND (power), 3 3.3DVDD (power), 4 ~{RST}/C2CK (io), 5 P2.0/C2D (io), 6 P1.7 (io), 7 P1.6 (io), 8 P1.5 (io), 9 P1.4 (io), 10 P1.3 (io), 11 P1.2 (io), 12 P1.1 (io), 13 P1.0 (io), 14 P0.7 (io), 15 P0.6 (io), 16 P0.5/RX (io), 17 P0.4/TX (io), 18 P0.3/XTO (io), 19 P0.2/XTI (io), 20 P0.1 (io), TPAD DGND (power)

## C8051F336-GM
designator U?
8051 Microcontroller, 25MIPS, 16KiB Flash, 256Byte RAM + 512Byte XRAM, 24.5MHz +/-2% and 80-10kHz Internal Oscillator, 4-16bit Timer, 17CH 200ksps 10bit ADC, 1CH 10bit IDAC, UART, I2C, SPI, PCA, Comparator, 17GPIO.; Manufacture: Silicon Laboratories; Compliant: RoHS; CompliantInformationSource: Silicon Laboratries; PackageDocument: 2007-08; TempertureRange: Industrial (-40 to +85Cel); ComponentLink1Description: Manufacture Link; ComponentLink1URL: http://www.silabs.com/; ComponentLink2Description: Datasheet; ComponentLink2URL: https://www.silabs.com/Support Documents/TechnicalDocs/C8051F336.pdf; DatasheetDocument: Rev. 0.2, 2007-08; PackageReference: QFN-20; Published: 2008-04-18; Publisher: A and A System Co., Ltd.; DigiKeyPartNumber: 336-1429-5-ND
footprint SILABS/QFN-20/W4/E0.5 (SiLabs Specific; QFN-20; Body  4.00x4.00x0.75mm; Pitch 0.5mm)
pins: 1 P0.0/VREF (io), 2 DGND (power), 3 3.3DVDD (power), 4 ~{RST}/C2CK (io), 5 P2.0/C2D (io), 6 P1.7 (io), 7 P1.6 (io), 8 P1.5 (io), 9 P1.4 (io), 10 P1.3 (io), 11 P1.2 (io), 12 P1.1 (io), 13 P1.0 (io), 14 P0.7 (io), 15 P0.6/CNVSTR (io), 16 P0.5/RX (io), 17 P0.4/TX (io), 18 P0.3/XTO (io), 19 P0.2/XTI (io), 20 P0.1/IDA0 (io), TPAD DGND (power)

## C8051F337-GM
designator U?
8051 Microcontroller, 25MIPS, 16KiB Flash, 256Byte RAM + 512Byte XRAM, 24.5MHz +/-2% and 80-10kHz Internal Oscillator, 4-16bit Timer, UART, I2C, SPI, PCA, Comparator, 17GPIO.; Manufacture: Silicon Laboratories; Compliant: RoHS; CompliantInformationSource: Silicon Laboratries; PackageDocument: 2007-08; TempertureRange: Industrial (-40 to +85Cel); ComponentLink1Description: Manufacture Link; ComponentLink1URL: http://www.silabs.com/; ComponentLink2Description: Datasheet; ComponentLink2URL: https://www.silabs.com/Support Documents/TechnicalDocs/C8051F336.pdf; DatasheetDocument: Rev. 0.2, 2007-08; PackageReference: QFN-20; Published: 2008-04-18; Publisher: A and A System Co., Ltd.; DigiKeyPartNumber: 336-1428-5-ND
footprint SILABS/QFN-20/W4/E0.5 (SiLabs Specific; QFN-20; Body  4.00x4.00x0.75mm; Pitch 0.5mm)
pins: 1 P0.0/VREF (io), 2 DGND (power), 3 3.3DVDD (power), 4 ~{RST}/C2CK (io), 5 P2.0/C2D (io), 6 P1.7 (io), 7 P1.6 (io), 8 P1.5 (io), 9 P1.4 (io), 10 P1.3 (io), 11 P1.2 (io), 12 P1.1 (io), 13 P1.0 (io), 14 P0.7 (io), 15 P0.6 (io), 16 P0.5/RX (io), 17 P0.4/TX (io), 18 P0.3/XTO (io), 19 P0.2/XTI (io), 20 P0.1 (io), TPAD DGND (power)

## C8051F338-GM
designator U?
8051 Microcontroller, 25MIPS, 16KiB Flash, 256Byte RAM + 512Byte XRAM, 24.5MHz +/-2% and 80-10kHz Internal Oscillator, 4-16bit Timer, 21CH 200ksps 10bit ADC, 1CH 10bit IDAC, UART, I2C, SPI, PCA, Comparator, 21GPIO.; Manufacture: Silicon Laboratories; Compliant: RoHS; CompliantInformationSource: Silicon Laboratries; PackageDocument: 2007-08; TempertureRange: Industrial (-40 to +85Cel); ComponentLink1Description: Manufacture Link; ComponentLink1URL: http://www.silabs.com/; ComponentLink2Description: Datasheet; ComponentLink2URL: https://www.silabs.com/Support Documents/TechnicalDocs/C8051F336.pdf; DatasheetDocument: Rev. 0.2, 2007-08; PackageReference: QFN-24; Published: 2008-04-18; Publisher: A and A System Co., Ltd.; DigiKeyPartNumber: 336-1427-5-ND
footprint HV-PQFN-24/W4/e0.5 (QFN-24; JEDEC MO-220-VGGD-6; Body 4.00x4.00x1.00mm; Pitch 0.5mm;)
pins: 1 P0.0/VREF (io), 2 P0.1/IDA0 (io), 3 DGND (power), 4 3.3DVDD (power), 5 ~{RST}/C2CK (io), 6 P2.4/C2D (io), 7 P2.3 (io), 8 P2.2 (io), 9 P2.1 (io), 10 P2.0 (io), 11 P1.7 (io), 12 P1.6 (io), 13 P1.5 (io), 14 P1.4 (io), 15 P1.3 (io), 16 P1.2 (io), 17 P1.1 (io), 18 P1.0 (io), 19 P0.7 (io), 20 P0.6/CNVSTR (io), 21 P0.5/RX (io), 22 P0.4/TX (io), 23 P0.3/XTO (io), 24 P0.2/XTI (io), TPAD DGND (power)

## C8051F339-GM
designator U?
8051 Microcontroller, 25MIPS, 16KiB Flash, 256Byte RAM + 512Byte XRAM, 24.5MHz +/-2% and 80-10kHz Internal Oscillator, 4-16bit Timer, UART, I2C, SPI, PCA, Comparator, 21GPIO.; Manufacture: Silicon Laboratories; Compliant: RoHS; CompliantInformationSource: Silicon Laboratries; PackageDocument: 2007-08; TempertureRange: Industrial (-40 to +85Cel); ComponentLink1Description: Manufacture Link; ComponentLink1URL: http://www.silabs.com/; ComponentLink2Description: Datasheet; ComponentLink2URL: https://www.silabs.com/Support Documents/TechnicalDocs/C8051F336.pdf; DatasheetDocument: Rev. 0.2, 2007-08; PackageReference: QFN-24; Published: 2008-04-18; Publisher: A and A System Co., Ltd.; DigiKeyPartNumber: 336-1426-5-ND
footprint HV-PQFN-24/W4/e0.5 (QFN-24; JEDEC MO-220-VGGD-6; Body 4.00x4.00x1.00mm; Pitch 0.5mm;)
pins: 1 P0.0/VREF (io), 2 P0.1 (io), 3 DGND (power), 4 3.3DVDD (power), 5 ~{RST}/C2CK (io), 6 P2.4/C2D (io), 7 P2.3 (io), 8 P2.2 (io), 9 P2.1 (io), 10 P2.0 (io), 11 P1.7 (io), 12 P1.6 (io), 13 P1.5 (io), 14 P1.4 (io), 15 P1.3 (io), 16 P1.2 (io), 17 P1.1 (io), 18 P1.0 (io), 19 P0.7 (io), 20 P0.6 (io), 21 P0.5/RX (io), 22 P0.4/TX (io), 23 P0.3/XTO (io), 24 P0.2/XTI (io), TPAD DGND (power)

## C8051F340-GQ
designator U?
USB 8051 Microcontroller, 48MIPS, 64KiB Flash, 256Byte RAM + 4KiB XRAM, 1KiB USB FIFO, 64KiB EMIF, 12MHz +/-0.25% and 80kHz Internal Oscillator, 4-16bit Timer, 20CH 200ksps 10bit ADC, USB 2.0 FS/LS, 2 UART, I2C, SPI, PCA, 2 Comparator, LDO, 40GPIO.; Manufacture: Silicon Laboratories; Compliant: RoHS; CompliantInformationSource: Silicon Laboratries; PackageDocument: 2008-06; TempertureRange: Industrial (-40 to +85Cel); ComponentLink1Description: Manufacture Link; ComponentLink1URL: http://www.silabs.com/; ComponentLink2Description: Datasheet; ComponentLink2URL: https://www.silabs.com/Support Documents/TechnicalDocs/C8051F34x.pdf; DatasheetDocument: Rev. 1.1, 2008-06; PackageReference: TQFP-48; Published: 2006-02-21; Publisher: A and A System Co., Ltd.; DigiKeyPartNumber: 336-1298-ND
footprint TQFP-48/e0.5 (TQFP-48; Body Width 9mm; Pitch 0.5mm)
pins: 1 P0.5/RX0 (io) "Port 0.5.", 2 P0.4/TX0 (io) "Port 0.4.", 3 P0.3 (io) "Port 0.3.", 4 P0.2 (io) "Port 0.2.", 5 P0.1 (io) "Port 0.1.", 6 P0.0 (io) "Port 0.0. See Section 15 for a complete description of Port 0.", 7 DGND (power) "Digital Power Ground", 8 USBDP (io) "USB Data line Positive.", 9 ~{USBDM} (io) "USB Data line Negative", 10 REGOUT/3.3DVDD (power) "2.7-3.6V Power Supply Voltage Input, or 3.3V Voltage Regulator Output. See Section 8.", 11 REGIN (power) "5V Regulator Input. This pin is the input to the on-chip voltage regulator.", 12 VBUS (power) "VBUS Sense Input. This pin should be connected to the VBUS signal of a USB network. A 5?V signal on this pin indicates a USB network connection.", 13 ~{RST}/C2CK (in) "Reset Input, C2 Debug IF Clock Input.", 14 C2D (io) "Port 0.3, C2 Debug IF Data IO.", 15 P4.7 (io) "Port 4.7.", 16 P4.6 (io) "Port 4.6.", 17 P4.5 (io) "Port 4.5.", 18 P4.4 (io) "Port 4.4.", 19 P4.3 (io) "Port 4.3.", 20 P4.2 (io) "Port 4.2.", 21 P4.1 (io) "Port 4.1.", 22 P4.0 (io) "Port 4.0.", 23 P3.7 (io) "Port 3.7.", 24 P3.6 (io) "Port 3.6.", 25 P3.5 (io) "Port 3.5.", 26 P3.4 (io) "Port 3.4.", 27 P3.3 (io) "Port 3.3.", 28 P3.2 (io) "Port 3.2.", 29 P3.1 (io) "Port 3.1.", 30 P3.0 (io) "Port 3.0.", 31 P2.7 (io) "Port 2.7.", 32 P2.6 (io) "Port 2.6.", 33 P2.5 (io) "Port 2.5.", 34 P2.4 (io) "Port 2.4.", 35 P2.3 (io) "Port 2.3.", 36 P2.2 (io) "Port 2.2.", 37 P2.1 (io) "Port 2.1.", 38 P2.0 (io) "Port 2.0.", 39 P1.7/~{WR} (io) "Port 1.7, WR Strobe for External Memory Address bus. See Port Input/Output section for complete description.", 40 P1.6/~{RD} (io) "Port 1.6, RD Strobe for External Memory Address bus. See Port Input/Output section for complete description.", 41 P1.5/VREF (io) "Port 1.5, External Voltage Reference", 42 P1.4/CNVSTR (io) "Port 1.4, ADC0 External Converter Start Input.", 43 P1.3/ALE (io) "Port 1.3, ALE Strobe for External Memory Address bus (multiplexed mode) See Port Input/Output section for complete description.", 44 P1.2 (io) "Port 1.2.", 45 P1.1 (io) "Port 1.1", 46 P1.0 (io) "Port 1.0", 47 P0.7/XTO (io) "Port 0.7, External Clock Output.", 48 P0.6/XTI (io) "Port 0.2, External Clock Input."

## C8051F341-GQ
designator U?
USB 8051 Microcontroller, 48MIPS, 32KiB Flash, 256Byte RAM + 2KiB XRAM, 1KiB USB FIFO, 64KiB EMIF, 12MHz +/-0.25% and 80kHz Internal Oscillator, 4-16bit Timer, 20CH 200ksps 10bit ADC, USB 2.0 FS/LS, 2 UART, I2C, SPI, PCA, 2 Comparator, LDO, 40GPIO.; Manufacture: Silicon Laboratories; Compliant: RoHS; CompliantInformationSource: Silicon Laboratries; PackageDocument: 2008-06; TempertureRange: Industrial (-40 to +85Cel); ComponentLink1Description: Manufacture Link; ComponentLink1URL: http://www.silabs.com/; ComponentLink2Description: Datasheet; ComponentLink2URL: https://www.silabs.com/Support Documents/TechnicalDocs/C8051F34x.pdf; DatasheetDocument: Rev. 1.1, 2008-06; PackageReference: TQFP-48; Published: 2006-02-21; Publisher: A and A System Co., Ltd.; DigiKeyPartNumber: 336-1299-ND
footprint TQFP-48/e0.5 (TQFP-48; Body Width 9mm; Pitch 0.5mm)
pins: 1 P0.5/RX0 (io) "Port 0.5.", 2 P0.4/TX0 (io) "Port 0.4.", 3 P0.3 (io) "Port 0.3.", 4 P0.2 (io) "Port 0.2.", 5 P0.1 (io) "Port 0.1.", 6 P0.0 (io) "Port 0.0. See Section 15 for a complete description of Port 0.", 7 DGND (power) "Digital Power Ground", 8 USBDP (io) "USB Data line Positive.", 9 ~{USBDM} (io) "USB Data line Negative", 10 REGOUT/3.3DVDD (power) "2.7-3.6V Power Supply Voltage Input, or 3.3V Voltage Regulator Output. See Section 8.", 11 REGIN (power) "5V Regulator Input. This pin is the input to the on-chip voltage regulator.", 12 VBUS (power) "VBUS Sense Input. This pin should be connected to the VBUS signal of a USB network. A 5?V signal on this pin indicates a USB network connection.", 13 ~{RST}/C2CK (in) "Reset Input, C2 Debug IF Clock Input.", 14 C2D (io) "Port 0.3, C2 Debug IF Data IO.", 15 P4.7 (io) "Port 4.7.", 16 P4.6 (io) "Port 4.6.", 17 P4.5 (io) "Port 4.5.", 18 P4.4 (io) "Port 4.4.", 19 P4.3 (io) "Port 4.3.", 20 P4.2 (io) "Port 4.2.", 21 P4.1 (io) "Port 4.1.", 22 P4.0 (io) "Port 4.0.", 23 P3.7 (io) "Port 3.7.", 24 P3.6 (io) "Port 3.6.", 25 P3.5 (io) "Port 3.5.", 26 P3.4 (io) "Port 3.4.", 27 P3.3 (io) "Port 3.3.", 28 P3.2 (io) "Port 3.2.", 29 P3.1 (io) "Port 3.1.", 30 P3.0 (io) "Port 3.0.", 31 P2.7 (io) "Port 2.7.", 32 P2.6 (io) "Port 2.6.", 33 P2.5 (io) "Port 2.5.", 34 P2.4 (io) "Port 2.4.", 35 P2.3 (io) "Port 2.3.", 36 P2.2 (io) "Port 2.2.", 37 P2.1 (io) "Port 2.1.", 38 P2.0 (io) "Port 2.0.", 39 P1.7/~{WR} (io) "Port 1.7, WR Strobe for External Memory Address bus. See Port Input/Output section for complete description.", 40 P1.6/~{RD} (io) "Port 1.6, RD Strobe for External Memory Address bus. See Port Input/Output section for complete description.", 41 P1.5/VREF (io) "Port 1.5, External Voltage Reference", 42 P1.4/CNVSTR (io) "Port 1.4, ADC0 External Converter Start Input.", 43 P1.3/ALE (io) "Port 1.3, ALE Strobe for External Memory Address bus (multiplexed mode) See Port Input/Output section for complete description.", 44 P1.2 (io) "Port 1.2.", 45 P1.1 (io) "Port 1.1", 46 P1.0 (io) "Port 1.0", 47 P0.7/XTO (io) "Port 0.7, External Clock Output.", 48 P0.6/XTI (io) "Port 0.2, External Clock Input."

## C8051F342-GQ
designator U?
USB 8051 Microcontroller, 48MIPS, 64KiB Flash, 256Byte RAM + 4KiB XRAM, 1KiB USB FIFO, 12MHz +/-0.25% and 80kHz Internal Oscillator, 4-16bit Timer, 21CH 200ksps 10bit ADC, USB 2.0 FS/LS, UART, I2C, SPI, PCA, 2 Comparator, LDO, 25GPIO.; Manufacture: Silicon Laboratories; Compliant: RoHS; CompliantInformationSource: Silicon Laboratries; PackageDocument: 2008-06; TempertureRange: Industrial (-40 to +85Cel); ComponentLink1Description: Manufacture Link; ComponentLink1URL: http://www.silabs.com/; ComponentLink2Description: Datasheet; ComponentLink2URL: https://www.silabs.com/Support Documents/TechnicalDocs/C8051F34x.pdf; DatasheetDocument: Rev. 1.1, 2008-06; PackageReference: LQFP-32; Published: 2006-02-21; Publisher: A and A System Co., Ltd.; DigiKeyPartNumber: 336-1300-ND
footprint LQFP-32/e0.8 (LQFP-32; Body Width 10mm; Pitch 0.8mm)
pins: 1 P0.1 (io) "Port 0.1.", 2 P0.0 (io) "Port 0.0. See Section 15 for a complete description of Port 0.", 3 DGND (power) "Digital Power Ground", 4 USBDP (io) "USB Data line Positive.", 5 ~{USBDM} (io) "USB Data line Negative", 6 REGOUT/3.3DVDD (power) "2.7-3.6V Power Supply Voltage Input, or 3.3V Voltage Regulator Output. See Section 8.", 7 REGIN (power) "5V Regulator Input. This pin is the input to the on-chip voltage regulator.", 8 VBUS (power) "VBUS Sense Input. This pin should be connected to the VBUS signal of a USB network. A 5?V signal on this pin indicates a USB network connection.", 9 ~{RST}/C2CK (in) "Reset Input, C2 Debug IF Clock Input.", 10 P3.0/C2D (io) "Port 3.0, C2 Debug IF Data IO.", 11 P2.7 (io) "Port 2.7.", 12 P2.6 (io) "Port 2.6.", 13 P2.5 (io) "Port 2.5.", 14 P2.4 (io) "Port 2.4.", 15 P2.3 (io) "Port 2.3.", 16 P2.2 (io) "Port 2.2.", 17 P2.1 (io) "Port 2.1.", 18 P2.0 (io) "Port 2.0.", 19 P1.7 (io) "Port 1.7.", 20 P1.6 (io) "Port 1.6.", 21 P1.5 (io) "Port 1.5.", 22 P1.4 (io) "Port 1.4.", 23 P1.3 (io) "Port 1.3.", 24 P1.2 (io) "Port 1.2.", 25 P1.1 (io) "Port 1.1", 26 P1.0 (io) "Port 1.0", 27 P0.7/VREF (io) "Port 0.7, ADC Voltage Reference.", 28 P0.6/CNVSTR (io) "Port 0.6, ADC0 External Converter Start Input.", 29 P0.5/RX (io) "Port 0.5.", 30 P0.4/TX (io) "Port 0.4.", 31 P0.3/XTO (io) "Port 0.3, External Clock Input.", 32 P0.2/XTI (io) "Port 0.2, External Clock Output."

## C8051F343-GQ
designator U?
USB 8051 Microcontroller, 48MIPS, 32KiB Flash, 256Byte RAM + 2KiB XRAM, 1KiB USB FIFO, 12MHz +/-0.25% and 80kHz Internal Oscillator, 4-16bit Timer, 21CH 200ksps 10bit ADC, USB 2.0 FS/LS, UART, I2C, SPI, PCA, 2 Comparator, LDO, 25GPIO.; Manufacture: Silicon Laboratories; Compliant: RoHS; CompliantInformationSource: Silicon Laboratries; PackageDocument: 2008-06; TempertureRange: Industrial (-40 to +85Cel); ComponentLink1Description: Manufacture Link; ComponentLink1URL: http://www.silabs.com/; ComponentLink2Description: Datasheet; ComponentLink2URL: https://www.silabs.com/Support Documents/TechnicalDocs/C8051F34x.pdf; DatasheetDocument: Rev. 1.1, 2008-06; PackageReference: LQFP-32; Published: 2006-02-21; Publisher: A and A System Co., Ltd.; DigiKeyPartNumber: 336-1301-ND
footprint LQFP-32/e0.8 (LQFP-32; Body Width 10mm; Pitch 0.8mm)
pins: 1 P0.1 (io) "Port 0.1.", 2 P0.0 (io) "Port 0.0. See Section 15 for a complete description of Port 0.", 3 DGND (power) "Digital Power Ground", 4 USBDP (io) "USB Data line Positive.", 5 ~{USBDM} (io) "USB Data line Negative", 6 REGOUT/3.3DVDD (power) "2.7-3.6V Power Supply Voltage Input, or 3.3V Voltage Regulator Output. See Section 8.", 7 REGIN (power) "5V Regulator Input. This pin is the input to the on-chip voltage regulator.", 8 VBUS (power) "VBUS Sense Input. This pin should be connected to the VBUS signal of a USB network. A 5?V signal on this pin indicates a USB network connection.", 9 ~{RST}/C2CK (in) "Reset Input, C2 Debug IF Clock Input.", 10 P3.0/C2D (io) "Port 3.0, C2 Debug IF Data IO.", 11 P2.7 (io) "Port 2.7.", 12 P2.6 (io) "Port 2.6.", 13 P2.5 (io) "Port 2.5.", 14 P2.4 (io) "Port 2.4.", 15 P2.3 (io) "Port 2.3.", 16 P2.2 (io) "Port 2.2.", 17 P2.1 (io) "Port 2.1.", 18 P2.0 (io) "Port 2.0.", 19 P1.7 (io) "Port 1.7.", 20 P1.6 (io) "Port 1.6.", 21 P1.5 (io) "Port 1.5.", 22 P1.4 (io) "Port 1.4.", 23 P1.3 (io) "Port 1.3.", 24 P1.2 (io) "Port 1.2.", 25 P1.1 (io) "Port 1.1", 26 P1.0 (io) "Port 1.0", 27 P0.7/VREF (io) "Port 0.7, ADC Voltage Reference.", 28 P0.6/CNVSTR (io) "Port 0.6, ADC0 External Converter Start Input.", 29 P0.5/RX (io) "Port 0.5.", 30 P0.4/TX (io) "Port 0.4.", 31 P0.3/XTO (io) "Port 0.3, External Clock Input.", 32 P0.2/XTI (io) "Port 0.2, External Clock Output."

## C8051F344-GQ
designator U?
USB 8051 Microcontroller, 25MIPS, 64KiB Flash, 256Byte RAM + 4KiB XRAM, 1KiB USB FIFO, 64KiB EMIF, 12MHz +/-0.25% and 80kHz Internal Oscillator, 4-16bit Timer, 20CH 200ksps 10bit ADC, USB 2.0 FS/LS, 2 UART, I2C, SPI, PCA, 2 Comparator, LDO, 40GPIO.; Manufacture: Silicon Laboratories; Compliant: RoHS; CompliantInformationSource: Silicon Laboratries; PackageDocument: 2008-06; TempertureRange: Industrial (-40 to +85Cel); ComponentLink1Description: Manufacture Link; ComponentLink1URL: http://www.silabs.com/; ComponentLink2Description: Datasheet; ComponentLink2URL: https://www.silabs.com/Support Documents/TechnicalDocs/C8051F34x.pdf; DatasheetDocument: Rev. 1.1, 2008-06; PackageReference: TQFP-48; Published: 2006-02-21; Publisher: A and A System Co., Ltd.; DigiKeyPartNumber: 336-1302-ND
footprint TQFP-48/e0.5 (TQFP-48; Body Width 9mm; Pitch 0.5mm)
pins: 1 P0.5/RX0 (io) "Port 0.5.", 2 P0.4/TX0 (io) "Port 0.4.", 3 P0.3 (io) "Port 0.3.", 4 P0.2 (io) "Port 0.2.", 5 P0.1 (io) "Port 0.1.", 6 P0.0 (io) "Port 0.0. See Section 15 for a complete description of Port 0.", 7 DGND (power) "Digital Power Ground", 8 USBDP (io) "USB Data line Positive.", 9 ~{USBDM} (io) "USB Data line Negative", 10 REGOUT/3.3DVDD (power) "2.7-3.6V Power Supply Voltage Input, or 3.3V Voltage Regulator Output. See Section 8.", 11 REGIN (power) "5V Regulator Input. This pin is the input to the on-chip voltage regulator.", 12 VBUS (power) "VBUS Sense Input. This pin should be connected to the VBUS signal of a USB network. A 5?V signal on this pin indicates a USB network connection.", 13 ~{RST}/C2CK (in) "Reset Input, C2 Debug IF Clock Input.", 14 C2D (io) "Port 0.3, C2 Debug IF Data IO.", 15 P4.7 (io) "Port 4.7.", 16 P4.6 (io) "Port 4.6.", 17 P4.5 (io) "Port 4.5.", 18 P4.4 (io) "Port 4.4.", 19 P4.3 (io) "Port 4.3.", 20 P4.2 (io) "Port 4.2.", 21 P4.1 (io) "Port 4.1.", 22 P4.0 (io) "Port 4.0.", 23 P3.7 (io) "Port 3.7.", 24 P3.6 (io) "Port 3.6.", 25 P3.5 (io) "Port 3.5.", 26 P3.4 (io) "Port 3.4.", 27 P3.3 (io) "Port 3.3.", 28 P3.2 (io) "Port 3.2.", 29 P3.1 (io) "Port 3.1.", 30 P3.0 (io) "Port 3.0.", 31 P2.7 (io) "Port 2.7.", 32 P2.6 (io) "Port 2.6.", 33 P2.5 (io) "Port 2.5.", 34 P2.4 (io) "Port 2.4.", 35 P2.3 (io) "Port 2.3.", 36 P2.2 (io) "Port 2.2.", 37 P2.1 (io) "Port 2.1.", 38 P2.0 (io) "Port 2.0.", 39 P1.7/~{WR} (io) "Port 1.7, WR Strobe for External Memory Address bus. See Port Input/Output section for complete description.", 40 P1.6/~{RD} (io) "Port 1.6, RD Strobe for External Memory Address bus. See Port Input/Output section for complete description.", 41 P1.5/VREF (io) "Port 1.5, External Voltage Reference", 42 P1.4/CNVSTR (io) "Port 1.4, ADC0 External Converter Start Input.", 43 P1.3/ALE (io) "Port 1.3, ALE Strobe for External Memory Address bus (multiplexed mode) See Port Input/Output section for complete description.", 44 P1.2 (io) "Port 1.2.", 45 P1.1 (io) "Port 1.1", 46 P1.0 (io) "Port 1.0", 47 P0.7/XTO (io) "Port 0.7, External Clock Output.", 48 P0.6/XTI (io) "Port 0.2, External Clock Input."

## C8051F345-GQ
designator U?
USB 8051 Microcontroller, 25MIPS, 32KiB Flash, 256Byte RAM + 2KiB XRAM, 1KiB USB FIFO, 64KiB EMIF, 12MHz +/-0.25% and 80kHz Internal Oscillator, 4-16bit Timer, 20CH 200ksps 10bit ADC, USB 2.0 FS/LS, 2 UART, I2C, SPI, PCA, 2 Comparator, LDO, 40GPIO.; Manufacture: Silicon Laboratories; Compliant: RoHS; CompliantInformationSource: Silicon Laboratries; PackageDocument: 2008-06; TempertureRange: Industrial (-40 to +85Cel); ComponentLink1Description: Manufacture Link; ComponentLink1URL: http://www.silabs.com/; ComponentLink2Description: Datasheet; ComponentLink2URL: https://www.silabs.com/Support Documents/TechnicalDocs/C8051F34x.pdf; DatasheetDocument: Rev. 1.1, 2008-06; PackageReference: TQFP-48; Published: 2006-02-21; Publisher: A and A System Co., Ltd.; DigiKeyPartNumber: 336-1303-ND
footprint TQFP-48/e0.5 (TQFP-48; Body Width 9mm; Pitch 0.5mm)
pins: 1 P0.5/RX0 (io) "Port 0.5.", 2 P0.4/TX0 (io) "Port 0.4.", 3 P0.3 (io) "Port 0.3.", 4 P0.2 (io) "Port 0.2.", 5 P0.1 (io) "Port 0.1.", 6 P0.0 (io) "Port 0.0. See Section 15 for a complete description of Port 0.", 7 DGND (power) "Digital Power Ground", 8 USBDP (io) "USB Data line Positive.", 9 ~{USBDM} (io) "USB Data line Negative", 10 REGOUT/3.3DVDD (power) "2.7-3.6V Power Supply Voltage Input, or 3.3V Voltage Regulator Output. See Section 8.", 11 REGIN (power) "5V Regulator Input. This pin is the input to the on-chip voltage regulator.", 12 VBUS (power) "VBUS Sense Input. This pin should be connected to the VBUS signal of a USB network. A 5?V signal on this pin indicates a USB network connection.", 13 ~{RST}/C2CK (in) "Reset Input, C2 Debug IF Clock Input.", 14 C2D (io) "Port 0.3, C2 Debug IF Data IO.", 15 P4.7 (io) "Port 4.7.", 16 P4.6 (io) "Port 4.6.", 17 P4.5 (io) "Port 4.5.", 18 P4.4 (io) "Port 4.4.", 19 P4.3 (io) "Port 4.3.", 20 P4.2 (io) "Port 4.2.", 21 P4.1 (io) "Port 4.1.", 22 P4.0 (io) "Port 4.0.", 23 P3.7 (io) "Port 3.7.", 24 P3.6 (io) "Port 3.6.", 25 P3.5 (io) "Port 3.5.", 26 P3.4 (io) "Port 3.4.", 27 P3.3 (io) "Port 3.3.", 28 P3.2 (io) "Port 3.2.", 29 P3.1 (io) "Port 3.1.", 30 P3.0 (io) "Port 3.0.", 31 P2.7 (io) "Port 2.7.", 32 P2.6 (io) "Port 2.6.", 33 P2.5 (io) "Port 2.5.", 34 P2.4 (io) "Port 2.4.", 35 P2.3 (io) "Port 2.3.", 36 P2.2 (io) "Port 2.2.", 37 P2.1 (io) "Port 2.1.", 38 P2.0 (io) "Port 2.0.", 39 P1.7/~{WR} (io) "Port 1.7, WR Strobe for External Memory Address bus. See Port Input/Output section for complete description.", 40 P1.6/~{RD} (io) "Port 1.6, RD Strobe for External Memory Address bus. See Port Input/Output section for complete description.", 41 P1.5/VREF (io) "Port 1.5, External Voltage Reference", 42 P1.4/CNVSTR (io) "Port 1.4, ADC0 External Converter Start Input.", 43 P1.3/ALE (io) "Port 1.3, ALE Strobe for External Memory Address bus (multiplexed mode) See Port Input/Output section for complete description.", 44 P1.2 (io) "Port 1.2.", 45 P1.1 (io) "Port 1.1", 46 P1.0 (io) "Port 1.0", 47 P0.7/XTO (io) "Port 0.7, External Clock Output.", 48 P0.6/XTI (io) "Port 0.2, External Clock Input."